# Altium schematic symbol library Filters.SchLib: 5 symbols
Pins are listed as number, name and electrical type; pins without a type are passive.

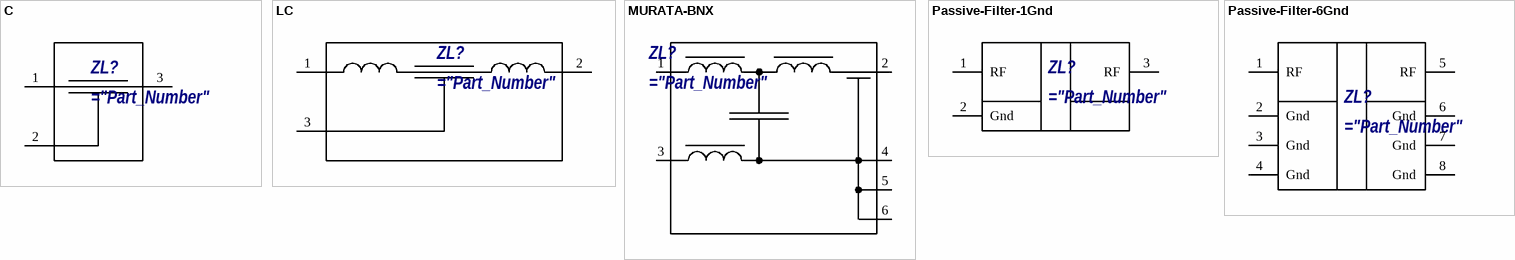
[diagram p0: symbols C to Passive-Filter-6Gnd]

## C
designator ZL?
="Description"
pins: 1, 2, 3

## LC
designator ZL?
="Description"; Rule: UNIONINDEX=0|RULEKIND=SMDNeckDown|NETSCOPE=AnyNet|LAYERKIND=SameLayer|NAME=Schematic SMD Neck-Down Constraint|PERCENT=50.000|UNIT=Metric
pins: 1, 2, 3

## MURATA-BNX
designator ZL?
="Description"
pins: 1 B, 2 CB, 3 PSG, 4 CG, 5 CG, 6 CG

## Passive-Filter-1Gnd
designator ZL?
="Description"
pins: 1 RF, 2 Gnd, 3 RF

## Passive-Filter-6Gnd
designator ZL?
="Description"
pins: 1 RF, 2 Gnd, 3 Gnd, 4 Gnd, 5 RF, 6 Gnd, 7 Gnd, 8 Gnd